# Altium schematic symbol library VESC_BMS.SCHLIB: 98 symbols
Pins are listed as number, name and electrical type; pins without a type are passive.

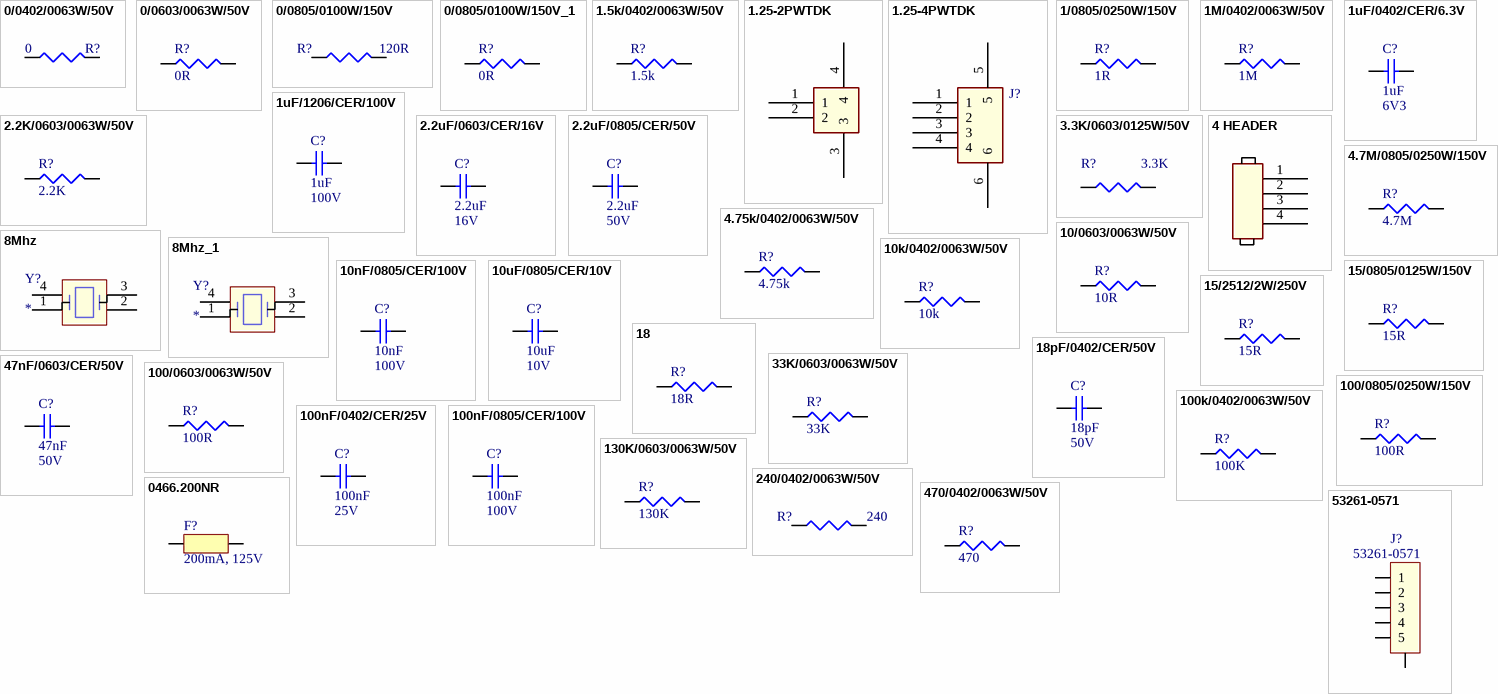
[diagram p0: symbols 0/0402/0063W/50V to 53261-0571]

## 0/0402/0063W/50V
designator R?, comment 0
Resistor, 0, 0.1%, 0.0625W, 50V, 100PPM, 0402; Brand: VISHAY DRALORIC; Brand Number: CRCW04020000Z0ED; Case Style: 0402; Power Rating: 0.063W; Order Code Supplier: 2121349; Price: 0,0021; Resistance: 0; Supplier: Farnell; Temperature Coefficient: ± 100PPM; Temperature Range: -55°C to +125°C; Voltage Rating: 50V
footprint 0402
pins: 1, 2

## 0/0603/0063W/50V
designator R?, comment 0R
Resistor, 0R, 0.1%, 0.063W, 50V, 200PPM, 0603; Brand: VISHAY DRALORIC; Brand Number: CRCW06030000Z0EA; Case Style: 0603; Order Code Supplier: 2122112; Power Rating: 0.063W; Price: 0,043; Resistance: 0R; Supplier: Farnell; Temperature Coefficient: ± 200PPM; Temperature Range: -55°C to +125°C; Voltage Rating: 50V
footprint 0603
pins: 1, 2

## 0/0805/0100W/150V
designator R?, comment 120R
Resistor, 0R, 0.1%, 0.1W, 150V, 200PPM, 0805; Brand: MULTICOMP; Brand Number: MC 0.1W 0805 0R; Case Style: 0805; Order Code Supplier: 9333681; Power Rating: 0.1W; Price: 0,038; Resistance: 0R; Supplier: Farnell; Temperature Coefficient: ± 200PPM; Temperature Range: -55°C to +125°C; Voltage Rating: 150V
footprint 0805
pins: 1, 2

## 0/0805/0100W/150V_1
designator R?, comment 0R
Resistor, 0R, 0.1%, 0.1W, 150V, 200PPM, 0805; Brand: MULTICOMP; Brand Number: MC 0.1W 0805 0R; Case Style: 0805; Order Code Supplier: 9333681; Power Rating: 0.1W; Price: 0,038; Resistance: 0R; Supplier: Farnell; Temperature Coefficient: ± 200PPM; Temperature Range: -55°C to +125°C; Voltage Rating: 150V
footprint 0805
pins: 1, 2

## 1.5k/0402/0063W/50V
designator R?, comment 1.5k
Resistor, 1.5k, 0.1%, 0.0625W, 50V, 100PPM, 0402; Brand: VISHAY DRALORIC; Brand Number: CRCW04021K50FKED; Case Style: 0402; Power Rating: 0.063W; Order Code Supplier: 2121624; Price: 0,0054; Resistance: 1.5k; Supplier: Farnell; Temperature Coefficient: ± 100PPM; Temperature Range: -55°C to +125°C; Voltage Rating: 50V
footprint 0402
pins: 1, 2

## 1.25-2PWTDK
designator J?
footprint BM02B-GHS-TBT_1
pins: 1, 2, 3, 4

## 1.25-4PWTDK
designator J?
footprint SM04B-GHS-TB
pins: 1, 2, 3, 4, 5, 6

## 1/0805/0250W/150V
designator R?, comment 1R
Resistor, 1R, 1%, 0.25W, 150V, 200PPM, 0805; Brand: PANASONIC; Brand Number: ERJ6BQF1R0V; Case Style: 0805; Order Code Supplier: 1717826; Power Rating: 0.25W; Price: 0,28; Resistance: 1R; Supplier: Farnell; Temperature Coefficient: ± 200PPM; Temperature Range: -55°C to +125°C; Voltage Rating: 150V
footprint 0805
pins: 1, 2

## 1M/0402/0063W/50V
designator R?, comment 1M
Resistor, 1M, 0.1%, 0.0625W, 50V, 100PPM, 0402; Brand: VISHAY DRALORIC; Brand Number: CRCW04021M00FKED; Case Style: 0402; Power Rating: 0.063W; Order Code Supplier: 2121984; Price: 0,0006; Resistance: 1M; Supplier: Farnell; Temperature Coefficient: ± 100PPM; Temperature Range: -55°C to +125°C; Voltage Rating: 50V
footprint 0402
pins: 1, 2

## 1uF/0402/CER/6.3V
designator C?, comment 1uF  Voltage Rating: 6V3
Capacitor, 1uF, 6.3V, X5R; Capacitance Tolerance: ± 10%; Capacitor Case Style: 0402; Brand Number: 04026D105KAT2A; Brand: AVX; Dielectric Characteristic: X5R; Capacitance: 1uF; Temperature Range: -55°C to +85°C; Price: 0,0874; Order Code Supplier: 1327658; Supplier: Farnell
footprint C0402
pins: 1, 2

## 1uF/1206/CER/100V
designator C?, comment 1uF  Voltage Rating: 100V
Capacitor, 1uF, 100V, X7R; Capacitance Tolerance: ± 10%; Capacitor Case Style: 1206; Brand Number: 12061C105K4Z2A; Brand: AVX; Dielectric Characteristic: X7R; Capacitance: 1uF; Temperature Range: -55°C to +125°C; Price: 0,52; Order Code Supplier: 1833855; Supplier: Farnell
footprint C-1206
pins: 1, 2

## 2.2K/0603/0063W/50V
designator R?, comment 2.2K
Resistor, 2.2K, 1%, 0.063W, 50V, 100PPM, 0603; Brand: VISHAY DRALORIC; Brand Number: CRCW06032K20FKEA; Case Style: 0603; Order Code Supplier: 2122405; Power Rating: 0.063W; Price: 0,038; Resistance: 2.2K; Supplier: Farnell; Temperature Coefficient: ± 100PPM; Temperature Range: -55°C to +125°C; Voltage Rating: 50V
footprint 0603
pins: 1, 2

## 2.2uF/0603/CER/16V
designator C?, comment 2.2uF  Voltage Rating: 16V
Capacitor, 2.2uF, 16V, X5R; Capacitance Tolerance: +/- 10%; Capacitor Case Style: 0603; Brand Number: GRM188R61C225KE15D; Brand: MURATA; Dielectric Characteristic: X5R; Capacitance: 2.2uF; Temperature Range: -55°C to 85°C; Price: 0,077; Order Code Supplier: 1735526; Supplier: Farnell
footprint C0603
pins: 1, 2

## 2.2uF/0805/CER/50V
designator C?, comment 2.2uF  Voltage Rating: 50V
Capacitor, 2.2uF, 50V,  X7R; Dielectric Characteristic: X5R; Capacitance Tolerance: ± 10%; Capacitor Case Style: 0805; Brand Number: GRM219R61H225KE15D; Brand: MURATA; Capacitance: 2.2uF; Temperature Range: -55°C to +125°C; Price: 0,113; Order Code Supplier: 2611933; Supplier: Farnell
footprint C-0805
pins: 1, 2

## 3.3K/0603/0125W/50V
designator R?, comment 3.3K
Resistor, 3.3K, 1%, 0.125W, 50V, 100PPM, 0603; Brand: MULTICOMP; Brand Number: MCHP03W8F3301T5E; Case Style: 0603; Order Code Supplier: 1576291; Power Rating: 0.125W; Price: 0,08; Resistance: 3.3K; Supplier: Farnell; Temperature Coefficient: ± 100PPM; Temperature Range: -55°C to +155°C; Voltage Rating: 50V
footprint 0603
pins: 1, 2

## 4 HEADER
designator J?
footprint PZ-4P-2_54
pins: 1, 2, 3, 4

## 4.7M/0805/0250W/150V
designator R?, comment 4.7M
Resistor, 4.7M, 1%, 0.25W, 150V, 100PPM, 0805; Brand: MULTICOMP; Brand Number: MCHP05W4F4704T5E; Case Style: 0805; Order Code Supplier: 1576516; Power Rating: 0.25W; Price: 0,089; Resistance: 4.7M; Supplier: Farnell; Temperature Coefficient: ± 100PPM; Temperature Range: -55°C to +155°C; Voltage Rating: 150V
footprint 0805
pins: 1, 2

## 4.75k/0402/0063W/50V
designator R?, comment 4.75k
Resistor, 4.75k, 0.1%, 0.0625W, 50V, 100PPM, 0402; Brand: VISHAY DRALORIC; Brand Number: CRCW04024K75FKED; Case Style: 0402; Power Rating: 0.063W; Order Code Supplier: 2121689; Price: 0,0006; Resistance: 4.75k; Supplier: Farnell; Temperature Coefficient: ± 100PPM; Temperature Range: -55°C to +125°C; Voltage Rating: 50V
footprint 0402
pins: 1, 2

## 8Mhz
designator Y?
Crystal or Oscillator; Manufacturer_Name: Seiko Epson Corporation; Manufacturer_Part_Number: Q22FA12800400; Datasheet Link: https://datasheet.lcsc.com/szlcsc/Seiko-Epson-Q22FA12800400_C255875.pdf; Height: 0.5mm
footprint CRYSTAL-SMD_4P-L3.2-W2.5-BL
pins: 1 CRYSTAL_1, 2 GND_1, 3 CRYSTAL_2, 4 GND_2

## 8Mhz_1
designator Y?
Crystal or Oscillator; Manufacturer_Name: Seiko Epson Corporation; Manufacturer_Part_Number: Q22FA12800400; Datasheet Link: https://datasheet.lcsc.com/szlcsc/Seiko-Epson-Q22FA12800400_C255875.pdf; Height: 0.5mm
footprint CRYSTAL-SMD_4P-L3.2-W2.5-BL
pins: 1 CRYSTAL_1, 2 GND_1, 3 CRYSTAL_2, 4 GND_2

## 10/0603/0063W/50V
designator R?, comment 10R
Resistor, 10R, 1%, 0.063W, 50V, 200PPM, 0603; Brand: VISHAY DRALORIC; Brand Number: CRCW060310R0FKEA; Case Style: 0603; Order Code Supplier: 2122113; Power Rating: 0.063W; Price: 0,038; Resistance: 10R; Supplier: Farnell; Temperature Coefficient: ± 200PPM; Temperature Range: -55°C to +125°C; Voltage Rating: 50V
footprint 0603
pins: 1, 2

## 10k/0402/0063W/50V
designator R?, comment 10k
Resistor, 10k, 0.1%, 0.0625W, 50V, 100PPM, 0402; Brand: VISHAY DRALORIC; Brand Number: CRCW040210K0FKED; Case Style: 0402; Power Rating: 0.063W; Order Code Supplier: 2121730; Price: 0,0005; Resistance: 10k; Supplier: Farnell; Temperature Coefficient: ± 100PPM; Temperature Range: -55°C to +125°C; Voltage Rating: 50V
footprint 0402
pins: 1, 2

## 10nF/0805/CER/100V
designator C?, comment 10nF  Voltage Rating: 100V
Capacitor, 10nF, 100V, X7R; Capacitance Tolerance: ± 10%; Capacitor Case Style: 0805; Brand Number: 08051C103KAZ2A; Brand: AVX; Dielectric Characteristic: X7R; Capacitance: 10nF; Temperature Range: -55°C to +125°C; Price: 0,131; Order Code Supplier: 1301898; Supplier: Farnell
footprint C-0805
pins: 1, 2

## 10uF/0805/CER/10V
designator C?, comment 10uF  Voltage Rating: 10V
Capacitor, 10uF, 10V, X7R; Capacitance Tolerance: ± 10%; Capacitor Case Style: 0805; Brand Number: GRM21BR71A106KE51L; Brand: MURATA; Dielectric Characteristic: X7R; Capacitance: 10uF; Temperature Range: -55°C to +125°C; Price: 0,36; Order Code Supplier: 1828828; Supplier: Farnell
footprint C-0805
pins: 1, 2

## 15/0805/0125W/150V
designator R?, comment 15R
Resistor, 15R, 0.1%, 0.125W, 150V, 15PPM, 0805; Brand: YAGEO; Brand Number: RC0805JR-0715RL; Case Style: 0805; Order Code Supplier: 9233784; Power Rating: 0.125W; Price: 0,0161; Resistance: 15R; Supplier: Farnell; Temperature Coefficient: ± 15PPM; Temperature Range: -55°C to +155°C; Voltage Rating: 150V
footprint 0805
pins: 1, 2

## 15/2512/2W/250V
designator R?, comment 15R
Resistor, 15R, 1%, 2W, 200V, 200PPM, 2512; Brand: TE CONNECTIVITY / CGS; Brand Number: 352115RFT; Case Style: 2512; Voltage Rating: 250V; Order Code Supplier: 2117454; Power Rating: 2W; Price: 0,30; Resistance: 15R; Supplier: Farnell; Temperature Coefficient: ± 200PPM; Temperature Range: -55°C to +125°C
footprint 2512
pins: 1, 2

## 18
designator R?, comment 18R
Resistor Wirewound, 18R, 5%, 3W, 500V, 200PPM, SMW; Brand: TE CONNECTIVITY / CGS; Brand Number: SMW318RJT; Case Style: SMW; Order Code Supplier: 1086385; Power Rating: 3W; Price: 0,80; Resistance: 18R; Supplier: Farnell; Temperature Coefficient: ± 200PPM; Temperature Range: -55°C to +200°C; Voltage Rating: 500V
footprint SM_3
pins: 1, 2

## 18pF/0402/CER/50V
designator C?, comment 18pF  Voltage Rating: 50V
Capacitor, 18pF, 50V, NP0; Capacitance Tolerance: ± 5%; Capacitor Case Style: 0402; Brand Number: GRM1555C1H180JA01D; Brand: MURATA; Dielectric Characteristic: NP0; Capacitance: 18pF; Temperature Range: -55°C to 125°C; Price: 0,0177; Order Code Supplier: 1828876; Supplier: Farnell
footprint C0402
pins: 1, 2

## 33K/0603/0063W/50V
designator R?, comment 33K
Resistor, 33K, 1%, 0.063W, 50V, 100PPM, 0603; Brand: VISHAY DRALORIC; Brand Number: CRCW060333K0FKEA; Case Style: 0603; Order Code Supplier: 2122555; Power Rating: 0.063W; Price: 0,038; Resistance: 33K; Supplier: Farnell; Temperature Coefficient: ± 100PPM; Temperature Range: -55°C to +125°C; Voltage Rating: 50V
footprint 0603
pins: 1, 2

## 47nF/0603/CER/50V
designator C?, comment 47nF  Voltage Rating: 50V
Capacitor, 47nF, 50V, X7R; Capacitance Tolerance: ± 10%; Capacitor Case Style: 0603; Brand Number: MCCA000249; Brand: MULTICOMP; Dielectric Characteristic: X7R; Capacitance: 47nF; Temperature Range: -55°C to +125°C; Price: 0,009; Order Code Supplier: 1759116; Supplier: Farnell
footprint C0603
pins: 1, 2

## 100/0603/0063W/50V
designator R?, comment 100R
Resistor, 100R, 1%, 0.063W, 50V, 200PPM, 0603; Brand: VISHAY DRALORIC; Brand Number: CRCW0603100RFKEA; Case Style: 0603; Order Code Supplier: 2122239; Power Rating: 0.063W; Price: 0,007; Resistance: 100R; Supplier: Farnell; Temperature Coefficient: ± 200PPM; Temperature Range: -55°C to +125°C; Voltage Rating: 50V
footprint 0603
pins: 1, 2

## 100/0805/0250W/150V
designator R?, comment 100R
Resistor, 100R, 1%, 0.25W, 150V, 100PPM, 0805; Brand: MULTICOMP; Brand Number: MCHP05W4F1000T5E; Case Style: 0805; Order Code Supplier: 1576445; Power Rating: 0.25W; Price: 0,089; Resistance: 100R; Supplier: Farnell; Temperature Coefficient: ± 100PPM; Temperature Range: -55°C to +155°C; Voltage Rating: 150V
footprint 0805
pins: 1, 2

## 100k/0402/0063W/50V
designator R?, comment 100K
Resistor, 100k, 0.1%, 0.0625W, 50V, 100PPM, 0402; Brand: VISHAY DRALORIC; Brand Number: CRCW0402100KFKED; Case Style: 0402; Power Rating: 0.063W; Order Code Supplier: 2121857; Price: 0,0004; Resistance: 100K; Supplier: Farnell; Temperature Coefficient: ± 100PPM; Temperature Range: -55°C to +125°C; Voltage Rating: 50V
footprint 0402
pins: 1, 2

## 100nF/0402/CER/25V
designator C?, comment 100nF  Voltage Rating: 25V
Capacitor, 100nF, 25V, X7R; Capacitance Tolerance: 10nF; Capacitor Case Style: 0402; Brand Number: GRM155R71E104KE14D; Brand: MULTICOMP; Dielectric Characteristic: X7R; Capacitance: 100nF; Temperature Range: -55 to +125 C; Price: 0,0225; Order Code Supplier: 2456106; Supplier: Farnell
footprint C0402
pins: 1, 2

## 100nF/0805/CER/100V
designator C?, comment 100nF  Voltage Rating: 100V
Capacitor, 100nF, 100V, X7R; Capacitance Tolerance: ± 10%; Capacitor Case Style: 0805; Brand Number: C0805C104K1RACTU; Brand: KEMET; Dielectric Characteristic: X7R; Capacitance: 100nF; Temperature Range: -55°C to +125°C; Price: 0,096; Order Code Supplier: 1650862; Supplier: Farnell
footprint C-0805
pins: 1, 2

## 130K/0603/0063W/50V
designator R?, comment 130K
Resistor, 130K, 1%, 0.063W, 50V, 100PPM, 0603; Brand: VISHAY DRALORIC; Brand Number: CRCW0603130KFKEA; Case Style: 0603; Order Code Supplier: 2122632; Power Rating: 0.063W; Price: 0,017; Resistance: 130K; Supplier: Farnell; Temperature Coefficient: ± 100PPM; Temperature Range: -55°C to +125°C; Voltage Rating: 50V
footprint 0603
pins: 1, 2

## 240/0402/0063W/50V
designator R?, comment 240
Resistor, 240, 0.1%, 0.0625W, 50V, 100PPM, 0402; Brand: VISHAY DRALORIC; Brand Number: CRCW0402240RFKED; Case Style: 0402; Power Rating: 0.063W; Order Code Supplier: 2121522; Price: 0,0006; Resistance: 240; Supplier: Farnell; Temperature Coefficient: ± 100PPM; Temperature Range: -55°C to +125°C; Voltage Rating: 50V
footprint 0402
pins: 1, 2

## 0466.200NR
designator F?, comment 200mA, 125V
Fuse, Slow Blow, 200 mA, 125 VAC, 125 VDC; Brand: LITTELFUSE; Brand Number: 0466.200NR; Prijs: 0,347; Order Code Supplier: 1596522; Supplier: Farnell
footprint F1206
pins: 1, 2

## 470/0402/0063W/50V
designator R?, comment 470
Resistor, 470, 1%, 0.0625W, 50V, 100PPM, 0402; Brand: VISHAY DRALORIC; Brand Number: CRG0402F470R; Case Style: 0402; Power Rating: 0.063W; Order Code Supplier: 2331533; Price: 0,0099; Resistance: 470; Supplier: Farnell; Temperature Coefficient: ± 100PPM; Temperature Range: -55°C to +125°C; Voltage Rating: 50V
footprint 0402
pins: 1, 2

## 53261-0571
designator J?
PicoBlade 53261 Series, 5Pin, Right Angle; Brand: MOLEX; Pitch: 1.25mm; Brand Number: 53261-0571; Case Style: 53261-0571; Order Code Supplier: 1125360; Price: 1,20; Supplier: Farnell
footprint 53261-0571
pins: 0 SHLD, 1, 2, 3, 4, 5

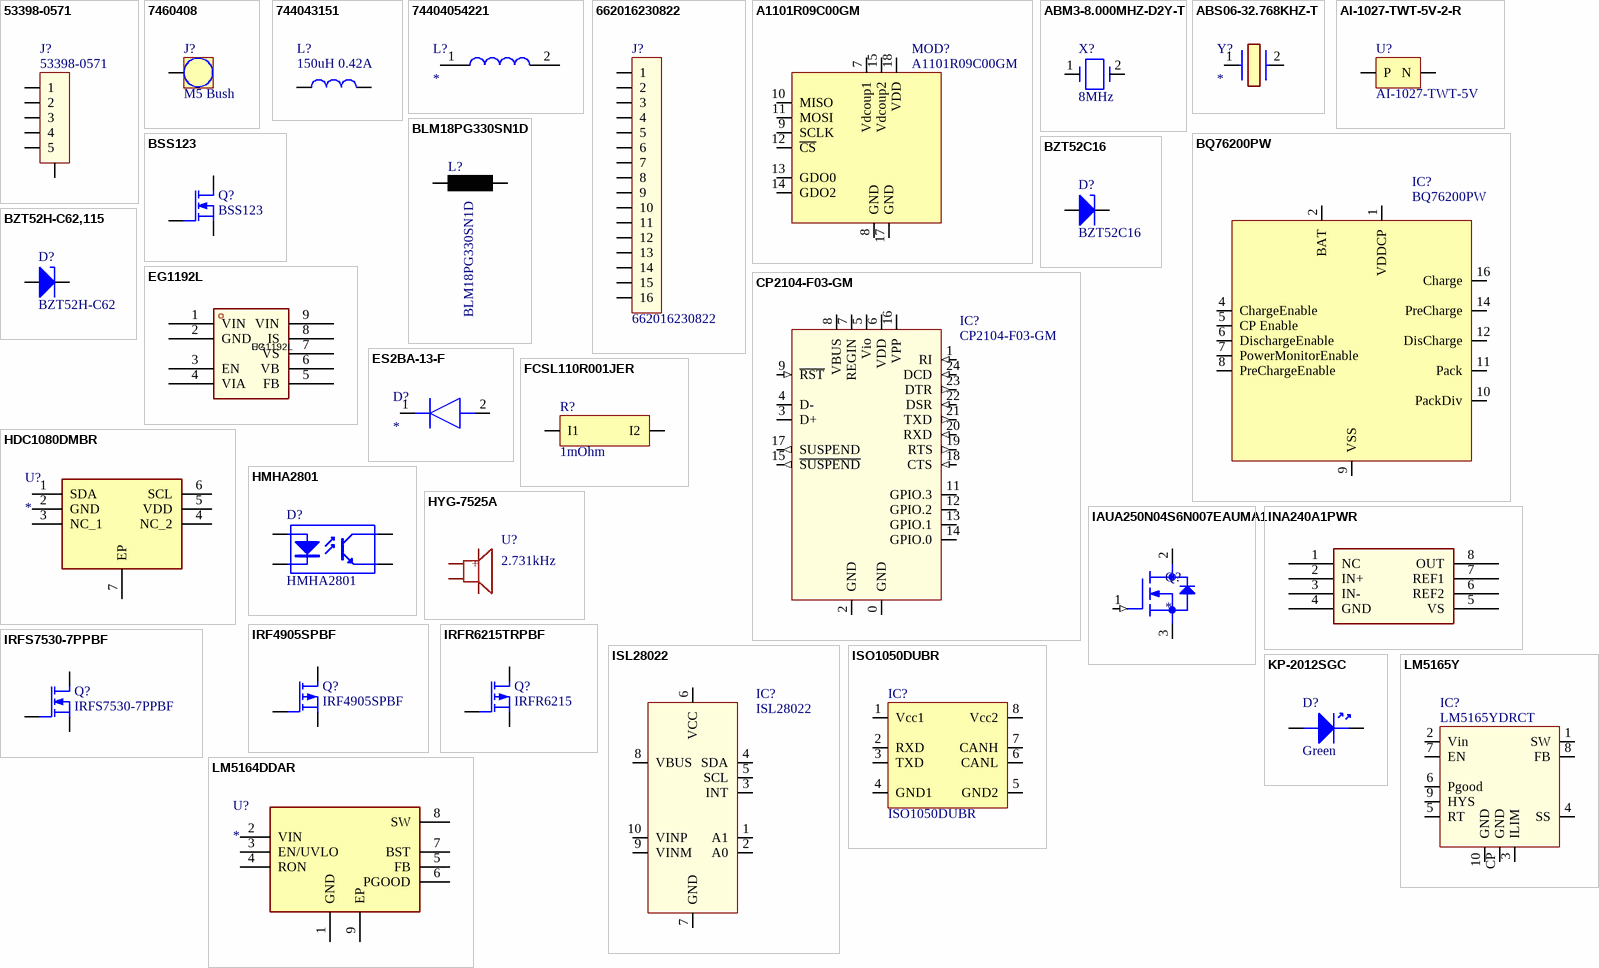
[diagram p1: symbols 53398-0571 to LM5165Y]

## 53398-0571
designator J?
PicoBlade 53398 Series, 5Pin, Right Angle; Brand: MOLEX; Pitch: 1.25mm; Brand Number: 53398-0571; Case Style: 53398-0571; Order Code Supplier: 1125354; Price: 1,55; Supplier: Farnell
footprint 53398-0571
pins: 0 SHLD, 1, 2, 3, 4, 5

## 7460408
designator J?, comment M5 Bush
Bush with Circumference M5; Brand: Wurth; Brand Number: 7460408; Case Style: M5Bush; Order Code Supplier: 1821279; Price: 4,17; Supplier: Farnell
footprint 7460408_HAL Surface (M5, thr 6mm)
pins: 1

## 744043151
designator L?, comment 150uH 0.42A
150UH, 30%, 0.42A; Brand: Wurth; Brand Number: 744043151; Case Style: WE-TPC 4828; DC Resistance: 0.770ohm; DC Current: 0.42A; Inductance: 150uH; Order Code Supplier: 2082517; Price: 1,36; Q Factor: *; Supplier: Farnell; Temperature Range: -40°C to +125°C
footprint WE-TPC 4828, MH (SMD Inductor, 2-Leads, Body 4,8x4,8mm)
pins: 1, 2

## 74404054221
designator L?
Inductor; Manufacturer_Name: Wurth Elektronik; Manufacturer_Part_Number: 74404054221; Datasheet Link: https://www.mouser.com/datasheet/2/445/74404054221-1280555.pdf; Height: 4mm; Mouser Part Number: 710-74404054221; Mouser Price/Stock: https://www.mouser.co.uk/ProductDetail/Wurth-Elektronik/74404054221?qs=f9yNj16SXrLBSuRgk86STQ%3D%3D
footprint L5040
pins: 1, 2

## 662016230822
designator J?
WR-MPC3 Series, Surface Mount, Header, 16 Contacts, 3 mm; Brand: Wurth; Case Style: 3mm BoxHeader; Pitch: 3mm; Brand Number: 662016230822; Order Code Supplier: 2113471; Price: 2,67; Supplier: Farnell
footprint 662016230822 (Dual row SMT Right angle header With TH Metal Clip 16p)
pins: 1, 2, 3, 4, 5, 6, 7, 8, 9, 10, 11, 12, 13, 14, 15, 16

## A1101R09C00GM
designator MOD?
SubRF tranceiver module; Brand: Anaren; Order Code Supplier: 2096118; Brand Number: A1101R09C00GM; Supplier: Farnell; Price: 12,47
footprint AxxLR09_Short (AnarenCCModule)
pins: 7 Vdcoup1, 8 GND, 9 SCLK, 10 MISO, 11 MOSI, 12 ~{CS}, 13 GDO0, 14 GDO2, 15 Vdcoup2, 17 GND, 18 VDD

## ABM3-8.000MHZ-D2Y-T
designator X?, comment 8MHz
8MHZ, 18PF, 5 X 3.2MM; Brand: ABRACON; Brand Number: ABM3-8.000MHZ-D2Y-T; Order Code Supplier: 2101329; Price: 0,90; Supplier: Farnell
footprint XTAL150SMD_125X196
pins: 1, 2

## ABS06-32.768KHZ-T
designator Y?
Crystal or Oscillator; Manufacturer_Name: ABRACON; Manufacturer_Part_Number: ABS05-32.768KHZ-9-T; Datasheet Link: https://abracon.com/Resonators/ABS05.pdf; Height: 0.5mm; Mouser Part Number: 815-ABS05-32.768K9T; Mouser Price/Stock: https://www.mouser.co.uk/ProductDetail/ABRACON/ABS05-32.768KHZ-9-T?qs=Pyu0ZBy%2FIJbsNYnIET1z3A%3D%3D; Arrow Part Number: ABS05-32.768KHZ-9-T; Arrow Price/Stock: https://www.arrow.com/en/products/abs05-32.768khz-9-t/abracon?region=nac
footprint OSC-SMD_L2.0-W1.2
pins: 1, 2

## AI-1027-TWT-5V-2-R
designator U?, comment AI-1027-TWT-5V
EM 5VDC 2300Hz 82dBA Continuous Top Fire; Brand: PUI Audio; Brand Number: AI-1027-TWT-5V-2-R; Case Style: AI-1027-TWT-5V-2-R; Price: 1,73; Order Code Supplier: 665-AI1027TWT5V2R; Supplier: Mouser
footprint AI-1027-TWT (Buzzer low profile)
pins: N, P

## BLM18PG330SN1D
designator L?
Ferrite Bead, Impedance:33ohm, DC Resistance Max:0.025ohm, DC Current Rating:3A; Brand: MURATA; Case Style: 0603; Brand Number: BLM18PG330SN1D; Price: 0,048; Supplier: Farnell; Order Code Supplier: 1515742
footprint L0603
pins: 1, 2

## BQ76200PW
designator IC?
Battery protector, Lead Acid; Brand: Texas Instruments; Case Style: TSSOP16; Brand Number: BQ76200PW; Order Code Supplier: 2522565; Price: 4,84; Supplier: Farnell; Temperature Range: -55°C to +155°C
footprint TSSOP16
pins: 1 VDDCP, 2 BAT, 4 ChargeEnable, 5 CP Enable, 6 DischargeEnable, 7 PowerMonitorEnable, 8 PreChargeEnable, 9 VSS, 10 PackDiv, 11 Pack, 12 DisCharge, 14 PreCharge, 16 Charge

## BSS123
designator Q?
Mosfet, N-channel, Vds:100V, Id:0.15A, Vgs-th:2.8V, Rds-on:3.5ohm; Brand: NXP; Case Style: SOT-23; Drain Current: 0.15A; Drain Source Voltage: 100V; Gate Source Voltage: 20V; On Resistance: 3.5ohm; Threshold Voltage: 2.8V; Brand Number: BSS123; Order Code Supplier: 1510764; Price: 0,082; Supplier: Farnell; Temperature Range: -55°C to +150°C; Transistor Polarity: N-channel
footprint SOT-23
pins: D, G, S

## BZT52C16
designator D?
Diode Zener, Vz: 16V, If: 0.1A, Vf: 0.9V; Brand: Diodes; Case Style: SOD-123; Brand Number: BZT52C16; Forward Current: 0.1A; Forward Voltage: 0.9V; Order Code Supplier: 1902431; Price: 0,087; Supplier: Farnell; Temperature Range: -65°C to +150°C; Zener Voltage: 16V
footprint SOD123
pins: 1 A, 2 K

## BZT52H-C62,115
designator D?, comment BZT52H-C62
Diode Zener, Vz: 62V, If: 0.25A, Vf: 0.9V; Brand: NXP; Brand Number: BZT52H-C62,115; Case Style: SOD-123F; Forward Current: 0.25A; Forward Voltage: 0.9V; Order Code Supplier: 1757813RL; Price: 0,053; Supplier: Farnell; Temperature Range: -65°C to +150°C; Zener Voltage: 62V
footprint SOD123W
pins: 1, 2

## CP2104-F03-GM
designator IC?
USB to UART converter; Case Style: QFN24; Price: 1,65; Order Code Supplier: 757-4983; Brand Number: CP2104-F03-GM; Supplier: RS-Components
footprint QFN24
pins: 0 GND (power), 1 RI (in), 2 GND (power), 3 D+ (io), 4 D- (io), 5 Vio, 6 VDD (power), 7 REGIN (power), 8 VBUS (power), 9 ~{RST} (in), 11 GPIO.3, 12 GPIO.2, 13 GPIO.1, 14 GPIO.0, 15 ~{SUSPEND} (out), 16 VPP (power), 17 SUSPEND (out), 18 CTS (in), 19 RTS (out), 20 RXD (in), 21 TXD (out), 22 DSR (in), 23 DTR (out), 24 DCD (in)

## EG1192L
designator U?
Manufacturer: EG(屹晶微); Manufacturer Part: EG1198; Symbol: EG1192; Add into BOM: yes; Function: 降压型; Input Voltage: 10V~120V; Output Current: 1.5A; Switching Frequency: 120kHz; Number of Outputs: 1; Topology: 降压式; Switch tube (built-in/external): 内置; Device: EG1192; LCSC Part Name: 高性价比宽电压降压DCDC电源芯片; Supplier Part: C2987436; Supplier Footprint: ESOP-8; JLCPCB Part Class: Extended Part; Datasheet: https://atta.szlcsc.com/upload/public/pdf/source/20211208/030CAF1F902F9A81F24E8BE238D4FEDC.pdf; Supplier: LCSC; Convert to PCB: yes; Output Type: -; Output Voltage: -; Operating Temperature: -45℃~+125℃; Synchronous Rectification: -; Quiescent Current (Iq): -
footprint ESOP-8_L4.9-W3.9-P1.27-LS6.0-BL-EP-1
pins: 1 VIN, 2 GND, 3 EN, 4 VIA, 5 FB, 6 VB, 7 VS, 8 IS, 9 VIN

## ES2BA-13-F
designator D?
Diode; Manufacturer_Name: Diodes Incorporated; Manufacturer_Part_Number: ES2BA-13-F; Description: Diodes Inc ES2BA-13-F Switching Diode; Datasheet Link: https://www.diodes.com/assets/Datasheets/ds14002.pdf; Height: 2.3mm; Mouser Part Number: 621-ES2BA-F; Mouser Price/Stock: https://www.mouser.co.uk/ProductDetail/Diodes-Incorporated/ES2BA-13-F?qs=VEnr2Ndo2sLuOIbJ1qj2iA%3D%3D; Arrow Part Number: ES2BA-13-F; Arrow Price/Stock: https://www.arrow.com/en/products/es2ba-13-f/diodes-incorporated?region=nac
footprint DIOM5226X230N
pins: 1 K, 2 A

## FCSL110R001JER
designator R?, comment 1mOhm
1mohm, 5 W, ± 5%, 4320 Wide; Brand: Ohmite; Brand Number: FCSL110R001JER; Order Code Supplier: 2420535; Price: 3,81; Supplier: Farnell
footprint FCSL110 (Current shunt)
pins: 0 I1, 1 I2

## HDC1080DMBR
designator U?
Integrated Circuit; Manufacturer_Name: Texas Instruments; Manufacturer_Part_Number: HDC1080DMBR; Datasheet Link: http://www.ti.com/lit/gpn/HDC1080; Height: 0.8mm; Mouser Part Number: 595-HDC1080DMBR; Mouser Price/Stock: https://www.mouser.co.uk/ProductDetail/Texas-Instruments/HDC1080DMBR?qs=8%2FmU9qzJpL9OuhPLRSO9Vg%3D%3D; Arrow Part Number: HDC1080DMBR; Arrow Price/Stock: https://www.arrow.com/en/products/hdc1080dmbr/texas-instruments?region=nac
footprint SON100P300X300X80-7N-D
pins: 1 SDA, 2 GND, 3 NC_1, 4 NC_2, 5 VDD, 6 SCL, 7 EP

## HMHA2801
designator D?
Optocoupler, Vout:80V, Iin:0.01A; Brand: FAIRCHILD SEMICONDUCTOR; Isolation Voltage: 2500V; Input Current: 0.01A; Output Voltage: 80V; Brand Number: HMHA2801; Case Style: *; Price: 0,28; Order Code Supplier: 1652504; Supplier: Farnell; Temperature Range: -55°C to +100°C
footprint FSOP4
pins: 1 A1 "Anode", 2 K1 "Cathode", 3 E1 "Emitter", 4 C1 "Collector"

## HYG-7525A
designator U?, comment 2.731kHz
Manufacturer: HYDZ(华宇); Symbol: HYG-7525A; Add into BOM: yes; Current Consumption: 90mA; Sound Pressure Level(SPL): 85dB; Device: HYG-7525A; LCSC Part Name: 贴片无源蜂鸣器; Supplier Part: C7544812; Manufacturer Part: HYG-7525A; Supplier Footprint: SMD,7.5x7.5mm; JLCPCB Part Class: 扩展库; Datasheet: https://atta.szlcsc.com/upload/public/pdf/source/20230825/78098EC44B170663F3151CF5366FAD5D.pdf; Supplier: LCSC; Convert to PCB: yes; Value: 2.731kHz
footprint BUZ-SMD_4P-L7.5-W7.5-BR
pins: 1 +, 2, 3, 4

## IAUA250N04S6N007EAUMA1
designator Q?
MOSFET (N-Channel); Manufacturer_Name: Infineon; Manufacturer_Part_Number: IAUA250N04S6N007EAUMA1; Datasheet Link: https://www.infineon.com/dgdl/Infineon-IAUA250N04S6N007E-DataSheet-v01_00-EN.pdf?fileId=8ac78c8c7f2a768a017fac29beb03f29; Height: 2.3mm; Mouser Part Number: 726-IAUA250N04S6N00E; Mouser Price/Stock: https://www.mouser.co.uk/ProductDetail/Infineon-Technologies/IAUA250N04S6N007EAUMA1?qs=Rp5uXu7WBW%252BsJlf5ZvqXeA%3D%3D; Arrow Part Number: IAUA250N04S6N007EAUMA1; Arrow Price/Stock: https://www.arrow.com/en/products/iaua250n04s6n007eauma1/infineon-technologies-ag?region=nac
footprint TOLL - 2 (TOLL)
pins: 1 G (in), 2 D, 3 S3

## INA240A1PWR
designator U?
footprint TSSOP-8
pins: 1 NC, 2 IN+, 3 IN-, 4 GND, 5 VS, 6 REF2, 7 REF1, 8 OUT

## IRF4905SPBF
designator Q?
Mosfet, P-channel, Vds:-55V, Id:-42A, Vgs-th:-4V, Rds-on:0.02ohm; Brand: Taiwan Semiconductor; Case Style: SOT-23; Drain Current: -42A; Drain Source Voltage: -55V; Gate Source Voltage: -10V; Threshold Voltage: -4V; Brand Number: IRF4905SPBF; On Resistance: 0.02ohm; Order Code Supplier: 9103201; Price: 1,55; Supplier: Farnell; Temperature Range: -55°C to +150°C; Transistor Polarity: P-channel
footprint D2-PAK
pins: D, G, S

## IRFR6215TRPBF
designator Q?, comment IRFR6215
Mosfet, P-channel, Vds:150V, Id:13A, Vgs-th:4V, Rds-on:0.295ohm; Brand: INTERNATIONAL RECTIFIER; Brand Number: IRFR6215PBF; Case Style: D-PAK; Drain Current: 13A; Drain Source Voltage: 150V; Gate Source Voltage: 20V; Threshold Voltage: 4; On Resistance: 0.295ohm; Order Code Supplier: 1839002; Price: 0,94; Supplier: Farnell; Temperature Range: -55°C to +175°C; Transistor Polarity: P-channel
footprint D-PAK
pins: D, G, S

## IRFS7530-7PPBF
designator Q?
Mosfet, N-channel, Vds:60V, Id:338A, Vgs-th:3.7V, Rds-on:0.00115ohm; Brand: INTERNATIONAL RECTIFIER; Case Style: TO-263; Drain Current: 338A; Drain Source Voltage: 60V; Gate Source Voltage: 10V; Threshold Voltage: 3.7V; Brand Number: IRFS7530-7PPBF; On Resistance: 0.00115ohm; Order Code Supplier: 2580027; Price: 4,40; Supplier: Farnell; Temperature Range: -55°C to +175°C; Transistor Polarity: N-Channel
footprint D2PAK7
pins: D, G, S

## ISL28022
designator IC?
Current and voltage ADC; Case Style: MSOP10; Brand Number: ISL28022FUZ; Brand: Intersil; Supplier: Farnell; Price: 3,44; Order Code Supplier: 2373594
footprint MSOP10 (Mini small outline package)
pins: 1 A1 (power), 2 A0 (power), 3 INT (power), 4 SDA (power), 5 SCL (power), 6 VCC (power), 7 GND (power), 8 VBUS (power), 9 VINM (power), 10 VINP (power)

## ISO1050DUBR
designator IC?
CAN TRANSCEIVER; Brand: Texas Instruments; Case Style: SO8; Brand Number: ISO1050DUBR; Order Code Supplier: 1755712; Price: 5,44; Supplier: Farnell; Temperature Range: -55°C to +155°C
footprint PDSO8
pins: 1 Vcc1, 2 RXD, 3 TXD, 4 GND1, 5 GND2, 6 CANL, 7 CANH, 8 Vcc2

## KP-2012SGC
designator D?, comment Green
Led, Green, Li:12mcd, Vf:2.2V, If:0.02A; Brand: KingBright; Brand Number: KP-2012SGC; Case Style: 0805; Forward Current: 0.02A; Forward Voltage: 2.2V; Luminous Intensity: 12mcd; Order Code Supplier: 1318243; Price: 0,06; Supplier: Farnell; Temperature Range: -30°C to +85°C
footprint LED0603
pins: 1, 2

## LM5164DDAR
designator U?
Integrated Circuit; Manufacturer_Name: Texas Instruments; Manufacturer_Part_Number: LM5164DDAR; Datasheet Link: http://www.ti.com/lit/ds/symlink/lm5164.pdf; Height: 1.7mm; Mouser Part Number: 595-LM5164DDAR; Mouser Price/Stock: https://www.mouser.co.uk/ProductDetail/Texas-Instruments/LM5164DDAR?qs=PqoDHHvF64%2F0M%252BK9zcb2mw%3D%3D; Arrow Part Number: LM5164DDAR; Arrow Price/Stock: https://www.arrow.com/en/products/lm5164ddar/texas-instruments?utm_currency=USD&region=nac
footprint SOIC127P600X170-9N
pins: 1 GND, 2 VIN, 3 EN/UVLO, 4 RON, 5 FB, 6 PGOOD, 7 BST, 8 SW, 9 EP

## LM5165Y
designator IC?, comment LM5165YDRCT
Buck Vreg 150mA 3V3 out 5-65Vin; Brand: Texas Instruments; Case Style: MSOP-8; Price: 3,70; Order Code Supplier: 595-LM5165YDRCT; Brand Number: LM5165YDRCT; Temperature Range: -40°C to +85°C; Supplier: Mouser
footprint PWSON10
pins: 1 SW, 2 Vin, 3 ILIM, 4 SS, 5 RT, 6 Pgood, 7 EN, 8 FB, 9 HYS, 10 GND, CP GND

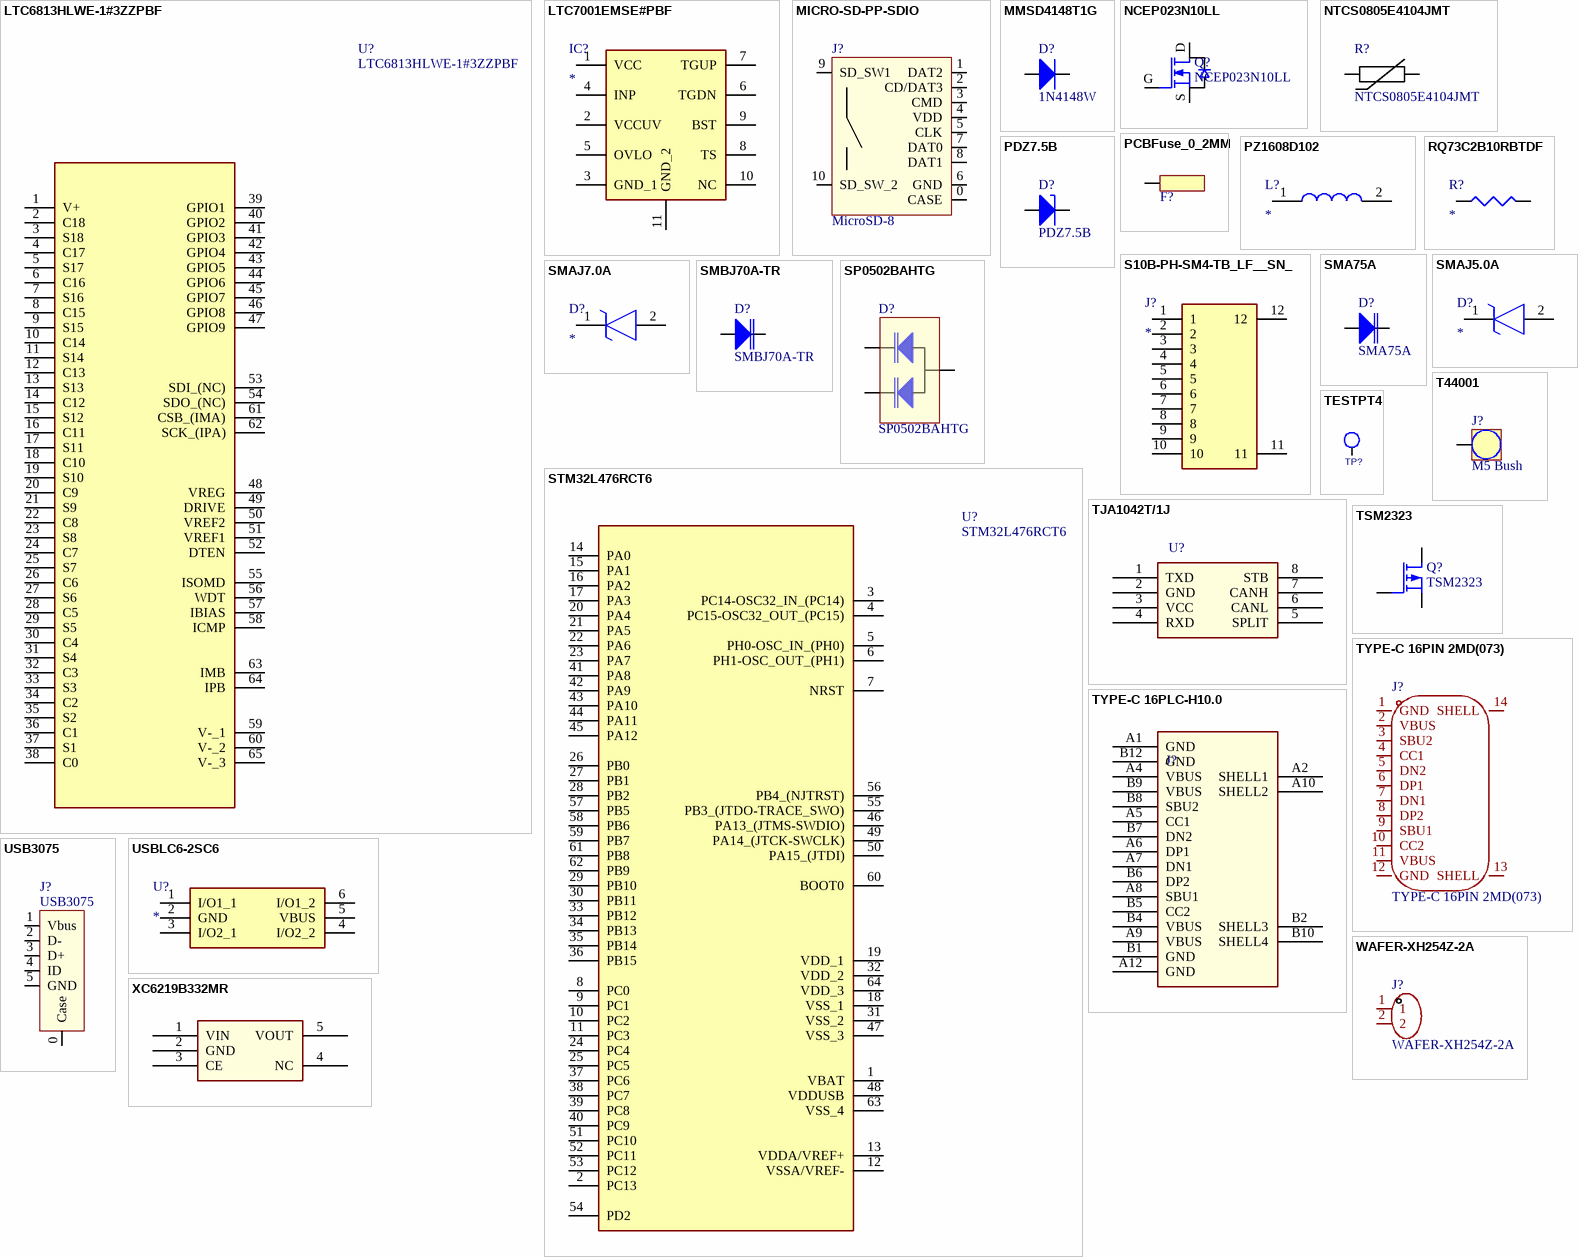
[diagram p2: symbols LTC6813HLWE-1#3ZZPBF to XC6219B332MR]

## LTC6813HLWE-1#3ZZPBF
designator U?
Integrated Circuit; Manufacturer_Name: Analog Devices; Datasheet Link: https://www.analog.com/media/en/technical-documentation/data-sheets/LTC6813-1.pdf; Height: 1.6mm; Manufacturer_Part_Number: LTC6813HLWE-1#3ZZPBF; Mouser Part Number: 584-6813HLWE13ZZPBF; Mouser Price/Stock: https://www.mouser.co.uk/ProductDetail/Analog-Devices-Linear-Technology/LTC6813HLWE-13ZZPBF?qs=lYGu3FyN48e3Qu9IYnRGuQ%3D%3D; Arrow Part Number: LTC6813HLWE-1#3ZZPBF; Arrow Price/Stock: https://www.arrow.com/en/products/ltc6813hlwe-13zzpbf/linear-technology
footprint QFP50P1200X1200X160-65N
pins: 1 V+, 2 C18, 3 S18, 4 C17, 5 S17, 6 C16, 7 S16, 8 C15, 9 S15, 10 C14, 11 S14, 12 C13, 13 S13, 14 C12, 15 S12, 16 C11, 17 S11, 18 C10, 19 S10, 20 C9, 21 S9, 22 C8, 23 S8, 24 C7, 25 S7, 26 C6, 27 S6, 28 C5, 29 S5, 30 C4, 31 S4, 32 C3, 33 S3, 34 C2, 35 S2, 36 C1, 37 S1, 38 C0, 39 GPIO1, 40 GPIO2, 41 GPIO3, 42 GPIO4, 43 GPIO5, 44 GPIO6, 45 GPIO7, 46 GPIO8, 47 GPIO9, 48 VREG, 49 DRIVE, 50 VREF2, 51 VREF1, 52 DTEN, 53 SDI_(NC), 54 SDO_(NC), 55 ISOMD, 56 WDT, 57 IBIAS, 58 ICMP, 59 V-_1, 60 V-_2, 61 CSB_(IMA), 62 SCK_(IPA), 63 IMB, 64 IPB, 65 V-_3

## LTC7001EMSE#PBF
designator IC?
Integrated Circuit; Manufacturer_Name: Analog Devices; Manufacturer_Part_Number: LTC7001EMSE#PBF; Datasheet Link: https://www.mouser.de/datasheet/2/609/LTC7001-1504282.pdf; Height: 1.1mm; Mouser Part Number: 584-LTC7001EMSEPBF; Mouser Price/Stock: https://www.mouser.co.uk/ProductDetail/Analog-Devices/LTC7001EMSEPBF?qs=BZBei1rCqCDffAMQwGwGFw%3D%3D; Arrow Part Number: LTC7001EMSE#PBF; Arrow Price/Stock: https://www.arrow.com/en/products/ltc7001emsepbf/analog-devices?utm_currency=USD&region=nac
footprint SOP50P490X110-11N
pins: 1 VCC, 2 VCCUV, 3 GND_1, 4 INP, 5 OVLO, 6 TGDN, 7 TGUP, 8 TS, 9 BST, 10 NC, 11 GND_2

## MICRO-SD-PP-SDIO
designator J?, comment MicroSD-8
Connector, Micro SD, Push/Push 8; Brand: MOLEX; Brand Number: 502774-0891; Case Style: 49225; Pitch: 1.10mm; Order Code Supplier: 2064063; Price: 2,45; Supplier: Farnell
footprint microSD
pins: 0 CASE, 1 DAT2, 2 CD/DAT3, 3 CMD, 4 VDD, 5 CLK, 6 GND, 7 DAT0, 8 DAT1, 9 SD_SW1, 10 SD_SW_2

## MMSD4148T1G
designator D?, comment 1N4148W
Diode, Vrrm: 100V, If: 0.15A, Vf: 1V; Brand: ON SEMICONDUCTOR; Brand Number: MMSD4148T1G; Case Style: SOD-123; Forward Current: 0.2A; Forward Voltage: 1V; Order Code Supplier: 9556079; Price: 0,19; Supplier: Farnell; Temperature Range: -65°C to +150°C; Vrrm: 100V
footprint SOD123
pins: 1 A, 2 K

## NCEP023N10LL
designator Q?
Mosfet, N-channel, Vds:100V, Id:330A, Vgs-th:3.7V, Rds-on:0.00115ohm; Brand: INTERNATIONAL RECTIFIER; Brand Number: IRFS7530-7PPBF; Case Style: TO-263; Drain Current: 338A; Drain Source Voltage: 60V; Gate Source Voltage: 10V; Threshold Voltage: 3.7V; On Resistance: 0.00115ohm; Order Code Supplier: 2580027; Price: 4,40; Supplier: Farnell; Temperature Range: -55°C to +175°C; Transistor Polarity: N-Channel
footprint TOLL
pins: D, G, S

## NTCS0805E4104JMT
designator R?
THERMISTOR, NTC, 100K, 5%; Case Style: 0805; Brand: VISHAY; Supplier: Farnell; Price: 0,65; Order Code Supplier: 1187095; Brand Number: NTCS0805E4104JMT
footprint 0603
pins: 1, 2

## PCBFuse_0_2MM
designator F?, comment PCB Fuse  (value not drawn)  (no BOM)
Fuse, PCB, 1A, 60V, T:-40°C +85°C; Price: 0,00; Order Code Supplier: -; Brand: -; Brand Number: -; Supplier: Farnell
footprint 0603_Fuse_0_2MM
pins: 1

## PDZ7.5B
designator D?
Diode, Vrrm: 7.5V, If: 0.2A, Vf: 0.9V; Brand: NXP; Brand Number: PDZ7.5B,115; Case Style: SOD-323; Forward Current: 0.2A; Forward Voltage: 0.9V; Order Code Supplier: 2319197; Price: 0,263; Supplier: Farnell; Temperature Range: -65°C to +150°C; Zener Voltage: 7.5V
footprint SOD-323
pins: 1, 2

## PZ1608D102
designator L?
Inductor; Manufacturer_Name: Murata Electronics; Manufacturer_Part_Number: LQG15HS4N7C02D; Datasheet Link: https://search.murata.co.jp/Ceramy/image/img/P02/JELF243B-0010.pdf; Height: 0.6mm; Mouser Part Number: 81-LQG15HS4N7C02D; Mouser Price/Stock: https://www.mouser.co.uk/ProductDetail/Murata-Electronics/LQG15HS4N7C02D?qs=60uY6ySkanQsgm4t8ngjFA%3D%3D; Arrow Part Number: LQG15HS4N7C02D; Arrow Price/Stock: https://www.arrow.com/en/products/lqg15hs4n7c02d/murata-manufacturing
footprint L0603 (R0603)
pins: 1, 2

## RQ73C2B10RBTDF
designator R?
Resistor; Manufacturer_Name: TE Connectivity; Manufacturer_Part_Number: RQ73C2B10RBTDF; Datasheet Link: https://www.te.com/commerce/DocumentDelivery/DDEController?Action=showdoc&DocId=Data+Sheet%7F1773270-2%7FB%7Fpdf%7FEnglish%7FENG_DS_1773270-2_B.pdf%7F2176383-1; Height: 0.65mm
footprint R1206
pins: 1, 2

## S10B-PH-SM4-TB_LF__SN_
designator J?
Connector; Manufacturer_Name: JST (JAPAN SOLDERLESS TERMINALS); Manufacturer_Part_Number: S10B-PH-SM4-TB(LF)(SN); Datasheet Link: http://uk.rs-online.com/web/p/products/6881350; Mouser Part Number: 306-S10BPHSM4TBLFSN; Mouser Price/Stock: https://www.mouser.co.uk/ProductDetail/JST-Commercial/S10B-PH-SM4-TBLFSN?qs=QpmGXVUTftH7ZRPAPdrNVw%3D%3D; Arrow Part Number: S10B-PH-SM4-TB(LF)(SN); Arrow Price/Stock: https://www.arrow.com/en/products/s10b-ph-sm4-tb-lf-sn/jst-manufacturing?region=nac
footprint S10B-PH-SM4-TB
pins: 1, 2, 3, 4, 5, 6, 7, 8, 9, 10, 11, 12

## SMA75A
designator D?
Diode TVS, Vrwm: 75V, Vbr: 81.9V, Vc: 113V, Ippm: 27A; Brand: STMICROELECTRONICS; Brand Number: SMBJ70A-TR; Case Style: SMB; Vrwm: 70V; Breakdown Voltage: 81.9V; Clamping Voltage: 113V; Ippm: 27A; Order Code Supplier: 9886389; Price: 0,33; Supplier: Farnell; Temperature Range: -55°C to +150°C
footprint DIOM7959X262N
pins: 1, 2

## SMAJ5.0A
designator D?
TVS Diode (Uni-directional); Manufacturer_Name: LITTELFUSE; Manufacturer_Part_Number: SMAJ7.0A; Datasheet Link: https://www.littelfuse.com/media?resourcetype=datasheets&itemid=75e32973-b177-4ee3-a0ff-cedaf1abdb93&filename=smaj-datasheet; Height: 2.29mm; Mouser Part Number: 576-SMAJ7.0A; Mouser Price/Stock: https://www.mouser.co.uk/ProductDetail/Littelfuse/SMAJ7.0A?qs=zHiv0nsVGmqwPZkMuKJUUw%3D%3D; Arrow Part Number: SMAJ7.0A; Arrow Price/Stock: https://www.arrow.com/en/products/smaj7.0a/littelfuse?region=europe
footprint SOD-123F
pins: 1 K, 2 A

## SMAJ7.0A
designator D?
TVS Diode (Uni-directional); Manufacturer_Name: LITTELFUSE; Manufacturer_Part_Number: SMAJ7.0A; Datasheet Link: https://www.littelfuse.com/media?resourcetype=datasheets&itemid=75e32973-b177-4ee3-a0ff-cedaf1abdb93&filename=smaj-datasheet; Height: 2.29mm; Mouser Part Number: 576-SMAJ7.0A; Mouser Price/Stock: https://www.mouser.co.uk/ProductDetail/Littelfuse/SMAJ7.0A?qs=zHiv0nsVGmqwPZkMuKJUUw%3D%3D; Arrow Part Number: SMAJ7.0A; Arrow Price/Stock: https://www.arrow.com/en/products/smaj7.0a/littelfuse?region=europe
footprint DIOM5026X229N
pins: 1 K, 2 A

## SMBJ70A-TR
designator D?
Diode TVS, Vrwm: 70V, Vbr: 81.9V, Vc: 113V, Ippm: 27A; Brand: STMICROELECTRONICS; Case Style: SMB; Brand Number: SMBJ70A-TR; Breakdown Voltage: 81.9V; Clamping Voltage: 113V; Ippm: 27A; Order Code Supplier: 9886389; Price: 0,33; Supplier: Farnell; Temperature Range: -55°C to +150°C; Vrwm: 70V
footprint SMB
pins: 1, 2

## SP0502BAHTG
designator D?
Diode TVS Dual, Vrwm: 5.5V Vc: 8V; Brand: LITTLEFUSE; Case Style: SOT-23; Brand Number: SP0502BAHTG; Clamping Voltage: 8V; Order Code Supplier: 1827631; Price: 0,80; Supplier: Farnell; Temperature Range: -40°C to +125°C; Vrwm: 5.5V
footprint SOT23
pins: A, K1, K2

## STM32L476RCT6
designator U?
Integrated Circuit; Manufacturer_Name: STMicroelectronics; Datasheet Link: https://www.st.com/resource/en/datasheet/stm32l476rc.pdf; Height: 1.6mm; Manufacturer_Part_Number: STM32L476RCT6; Mouser Part Number: 511-STM32L476RCT6; Mouser Price/Stock: https://www.mouser.co.uk/ProductDetail/STMicroelectronics/STM32L476RCT6?qs=kWQV1gtkNnc7gr%2FH8RnQ7w%3D%3D; Arrow Part Number: STM32L476RCT6; Arrow Price/Stock: https://www.arrow.com/en/products/stm32l476rct6/stmicroelectronics?region=nac
footprint QFP50P1200X1200X160-64N
pins: 1 VBAT, 2 PC13, 3 PC14-OSC32_IN_(PC14), 4 PC15-OSC32_OUT_(PC15), 5 PH0-OSC_IN_(PH0), 6 PH1-OSC_OUT_(PH1), 7 NRST, 8 PC0, 9 PC1, 10 PC2, 11 PC3, 12 VSSA/VREF-, 13 VDDA/VREF+, 14 PA0, 15 PA1, 16 PA2, 17 PA3, 18 VSS_1, 19 VDD_1, 20 PA4, 21 PA5, 22 PA6, 23 PA7, 24 PC4, 25 PC5, 26 PB0, 27 PB1, 28 PB2, 29 PB10, 30 PB11, 31 VSS_2, 32 VDD_2, 33 PB12, 34 PB13, 35 PB14, 36 PB15, 37 PC6, 38 PC7, 39 PC8, 40 PC9, 41 PA8, 42 PA9, 43 PA10, 44 PA11, 45 PA12, 46 PA13_(JTMS-SWDIO), 47 VSS_3, 48 VDDUSB, 49 PA14_(JTCK-SWCLK), 50 PA15_(JTDI), 51 PC10, 52 PC11, 53 PC12, 54 PD2, 55 PB3_(JTDO-TRACE_SWO), 56 PB4_(NJTRST), 57 PB5, 58 PB6, 59 PB7, 60 BOOT0, 61 PB8, 62 PB9, 63 VSS_4, 64 VDD_3

## T44001
designator J?, comment M5 Bush
Bush with Circumference M4; Brand: Wurth; Brand Number: 7460408; Case Style: M5Bush; Order Code Supplier: 1821279; Price: 4,17; Supplier: Farnell
footprint CONN-TH_T44001
pins: 1

## TESTPT4
designator TP?, comment 1.3TP  (value not drawn)  (no BOM)
1.3mm
footprint TP2-1.3MM (Test pin)
pins: 1 TP

## TJA1042T/1J
designator U?
footprint SOP-8
pins: 1 TXD, 2 GND, 3 VCC, 4 RXD, 5 SPLIT, 6 CANL, 7 CANH, 8 STB

## TSM2323
designator Q?
Mosfet, P-channel, Vds:20V, Id:4.7A, Vgs-th:1V, Rds-on:0.039ohm; Brand: Taiwan Semiconductor; Brand Number: TSM2323CX; Case Style: SOT-23; Drain Current: 4.7A; Drain Source Voltage: 20V; Gate Source Voltage: 8V; Threshold Voltage: 1V; On Resistance: 0.039ohm; Order Code Supplier: 1864590; Price: 0,195; Supplier: Farnell; Temperature Range: -55°C to +150°C; Transistor Polarity: P-channel
footprint SOT-23
pins: D, G, S

## TYPE-C 16PIN 2MD(073)
designator J?
Manufacturer: SHOU HAN(首韩); Add into BOM: yes; Gender: 母; Number of Contacts: 16P; Number of Ports: 1; Current Rating - Power (Max): 5A; Rated Voltage (Max): 5V; Connect-Disconnect Life: 5千次; Core Colour: 黑色; Symbol: TYPE-C 16PIN 2MD(073); Device: TYPE-C 16PIN 2MD(073); LCSC Part Name: Type-C 母 卧贴; Supplier Part: C2765186; Manufacturer Part: TYPE-C 16PIN 2MD(073); Supplier Footprint: SMD; Datasheet: https://atta.szlcsc.com/upload/public/pdf/source/20211123/39B17C16241EAC15C5E277BDA434118E.pdf; Supplier: LCSC; Convert to PCB: yes; Connector Type: Type-C; Standard: USB 3.1; Mounting Style: 卧贴; Operating Temperature Range: -25℃~+85℃
footprint USB-C-SMD_TYPE-C-6PIN-2MD-073
pins: 1 GND, 2 VBUS, 3 SBU2, 4 CC1, 5 DN2, 6 DP1, 7 DN1, 8 DP2, 9 SBU1, 10 CC2, 11 VBUS, 12 GND, 13 SHELL, 14 SHELL

## TYPE-C 16PLC-H10.0
designator J?  (value not drawn)
连接器类型:Type-C;标准:USB 3.1;公母:母;安装方式:直插;触点数量:16P;端口数量:1;额定电流 - 电源:5A;触头材质:-;触头镀层:-;工作温度范围:-40℃~+85℃;; Manufacturer: SHOU HAN(首韩); Add into BOM: yes; Gender: 母; Number of Contacts: 16P; Number of Ports: 1; Current Rating - Power (Max): 5A; Rated Voltage (Max): 20V; Connect-Disconnect Life: 1万次; Core Colour: 黑色; Symbol: TYPE-C 16PLC-H10.0; Device: TYPE-C 16PLC-H10.0; LCSC Part Name: Type-C 母 直插; Supplier Part: C3151747; Manufacturer Part: TYPE-C 16PLC-H10.0; Supplier Footprint: 插件; Datasheet: https://atta.szlcsc.com/upload/public/pdf/source/20240529/CC9428849977884A813B584EA396EFE9.pdf; Supplier: LCSC; Convert to PCB: yes; Connector Type: Type-C; Standard: USB 3.1; Mounting Style: 直插; Contact Material: -; Contact Plating: -; Operating Temperature Range: -40℃~+85℃
footprint TYPE-C-TH_16PLC-H10.0
pins: A1 GND (power), A2 SHELL1 (power), A4 VBUS (power), A5 CC1, A6 DP1, A7 DN1, A8 SBU1, A9 VBUS (power), A10 SHELL2 (power), A12 GND (power), B1 GND (power), B2 SHELL3 (power), B4 VBUS (power), B5 CC2, B6 DP2, B7 DN2, B8 SBU2, B9 VBUS (power), B10 SHELL4 (power), B12 GND (power)

## USB3075
designator J?
USB 2.0 MICRO B, RCPT, 5POS, SMT; Brand: Global Connector Technology; Brand Number: USB3075-30-A; Case Style: Micro B SMT; Pitch: 0.8mm; Order Code Supplier: 2443116; Price: 0,313; Supplier: Farnell
footprint USB3075
footprint USB3075 - NOSLOT
pins: 0 Case, 1 Vbus, 2 D-, 3 D+, 4 ID, 5 GND

## USBLC6-2SC6
designator U?
Integrated Circuit; Manufacturer_Name: STMicroelectronics; Manufacturer_Part_Number: USBLC6-2SC6; Datasheet Link: http://www.st.com/st-web-ui/static/active/en/resource/technical/document/datasheet/CD00050750.pdf; Height: 1.45mm; Mouser Part Number: 511-USBLC6-2SC6; Mouser Price/Stock: https://www.mouser.co.uk/ProductDetail/STMicroelectronics/USBLC6-2SC6?qs=po45yt2pPpu%2FhNIlwQdTlg%3D%3D; Arrow Part Number: USBLC6-2SC6; Arrow Price/Stock: https://www.arrow.com/en/products/usblc6-2sc6/stmicroelectronics?utm_currency=USD&region=europe
footprint SOT95P280X145-6N
pins: 1 I/O1_1, 2 GND, 3 I/O2_1, 4 I/O2_2, 5 VBUS, 6 I/O1_2

## WAFER-XH254Z-2A
designator J?
Manufacturer: HANBO(汉博); Add into BOM: yes; Pins Structure: 1x2P; Pitch: 2.54mm; Reference Series: XH; Number of PINs Per Row: 2; Current Rating (Max): 3A; Symbol: WAFER-XH254Z-2A; Device: WAFER-XH254Z-2A; LCSC Part Name: WAFER-XH254Z-2A; Supplier Part: C7432682; Manufacturer Part: WAFER-XH254Z-2A; Supplier Footprint: 插件,P=2.5mm; Datasheet: https://atta.szlcsc.com/upload/public/pdf/source/20230718/3B4FABA5D38EFB02DAF74E7C2B33D98F.pdf; Supplier: LCSC; Convert to PCB: yes; Mounting Style: 直插; Number of Pins: 2P; Number of Rows: 1; Operating Temperature Range: -25℃~+85℃
footprint CONN-TH_2P-P2.50_XH-2AW
pins: 1, 2

## XC6219B332MR
designator U?
footprint SOT-23-5
pins: 1 VIN, 2 GND, 3 CE, 4 NC, 5 VOUT